# EAGLE library part MMA8652FC (library Mine)
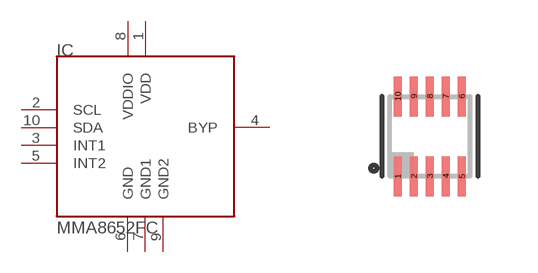
[diagram p83: symbol with the pads of DFN10; footprint DFN10]

Designator prefix IC

## MMA8652FC  [DFN10]
1  VDD  pwr
2  SCL  in
3  INT1  out
4  BYP
5  INT2  out
6  GND  pwr
7  GND1  pwr
8  VDDIO  pwr
9  GND2  pwr
10  SDA

## Footprint DFN10 (pad centres in mm)
smd 0.2 x 1: 1 -0.8,-1; 2 -0.4,-1; 3 0,-1; 4 0.4,-1; 5 0.8,-1; 6 0.8,1; 7 0.4,1; 8 0,1; 9 -0.4,1; 10 -0.8,1